# EAGLE library part RELE_ARDUINO (library ecar)
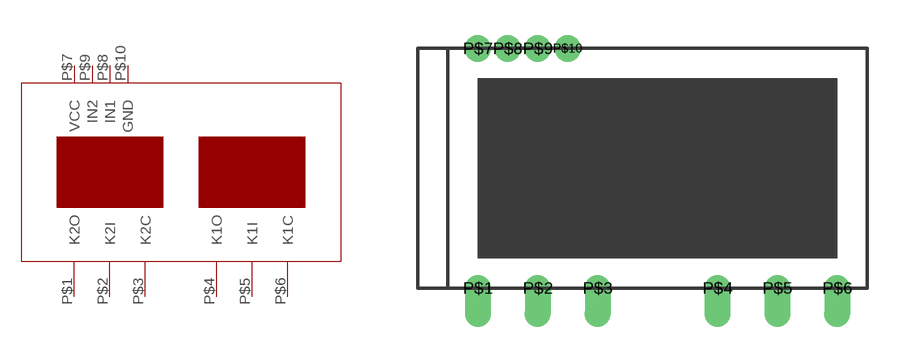
[diagram p15: symbol with the pads of RELE_ARDUINO; footprint RELE_ARDUINO]

Designator prefix -

## RELE_ARDUINO  [RELE_ARDUINO]
P$1  K2O
P$2  K2I
P$3  K2C
P$4  K1O
P$5  K1I
P$6  K1C
P$7  VCC
P$8  IN1
P$9  IN2
P$10  GND

## Footprint RELE_ARDUINO (pad centres in mm)
drill 0.6 offset: P$1 1.27,0; P$2 3.81,0; P$3 6.35,0; P$4 11.43,0; P$5 13.97,0; P$6 16.51,0
drill 0.6: P$7 1.27,10.16; P$8 2.54,10.16; P$9 3.81,10.16; P$10 5.08,10.16